# EAGLE library part PAS1 (library custom_parts)
MiniCircuits bi-phase attenuator/switch
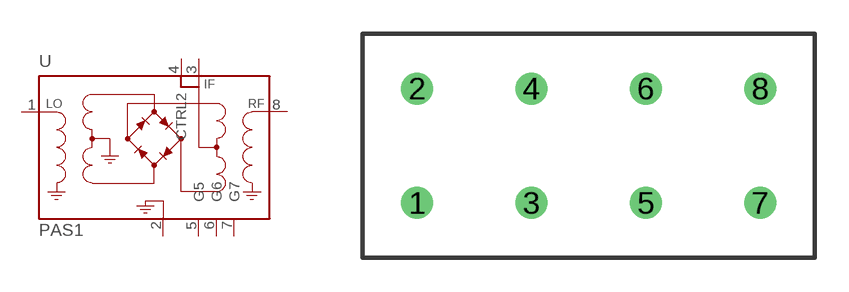
[diagram p16: symbol with the pads of A01; footprint A01]

Designator prefix -

## PAS1  [A01]
1  RF1  pas
2  CASEGROUND  pas
3  CTRL1  pas
4  CTRL2  pas
5  G5  pas
6  G6  pas
7  G7  pas
8  RF2  pas

## Footprint A01 (pad centres in mm)
CASE STYLE A01 Source: minicircuits.com .. PBP-10.7+.pdf
drill 0.9 pad 1.422: 1 -7.62,-2.54; 2 -7.62,2.54; 3 -2.54,-2.54; 4 -2.54,2.54; 5 2.54,-2.54; 6 2.54,2.54; 7 7.62,-2.54; 8 7.62,2.54